# Altium schematic symbol library CAP,Cer,1uF,16VDC,X7R,0603.Schlib: 1 symbol
Pins are listed as number, name and electrical type; pins without a type are passive.

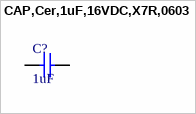
[diagram p0: symbol CAP,Cer,1uF,16VDC,X7R,0603]

## CAP,Cer,1uF,16VDC,X7R,0603
designator C?, comment 1uF
CAP CER 1UF 16V X7R 0603
pins: 1, 2